# Altium footprint library Altium_Footprints.PcbLib: 38 footprints (part 2 of 3)
Each footprint in its own frame and in the unit in brackets; x right, y up, seen from the top. Pads: shape width x height; smd on the part's side, far side on the other; paste and mask are expansions set on the pad; w line width, h text height; cw(c..) or ccw(c..) is an arc to the next point about the centre after c.
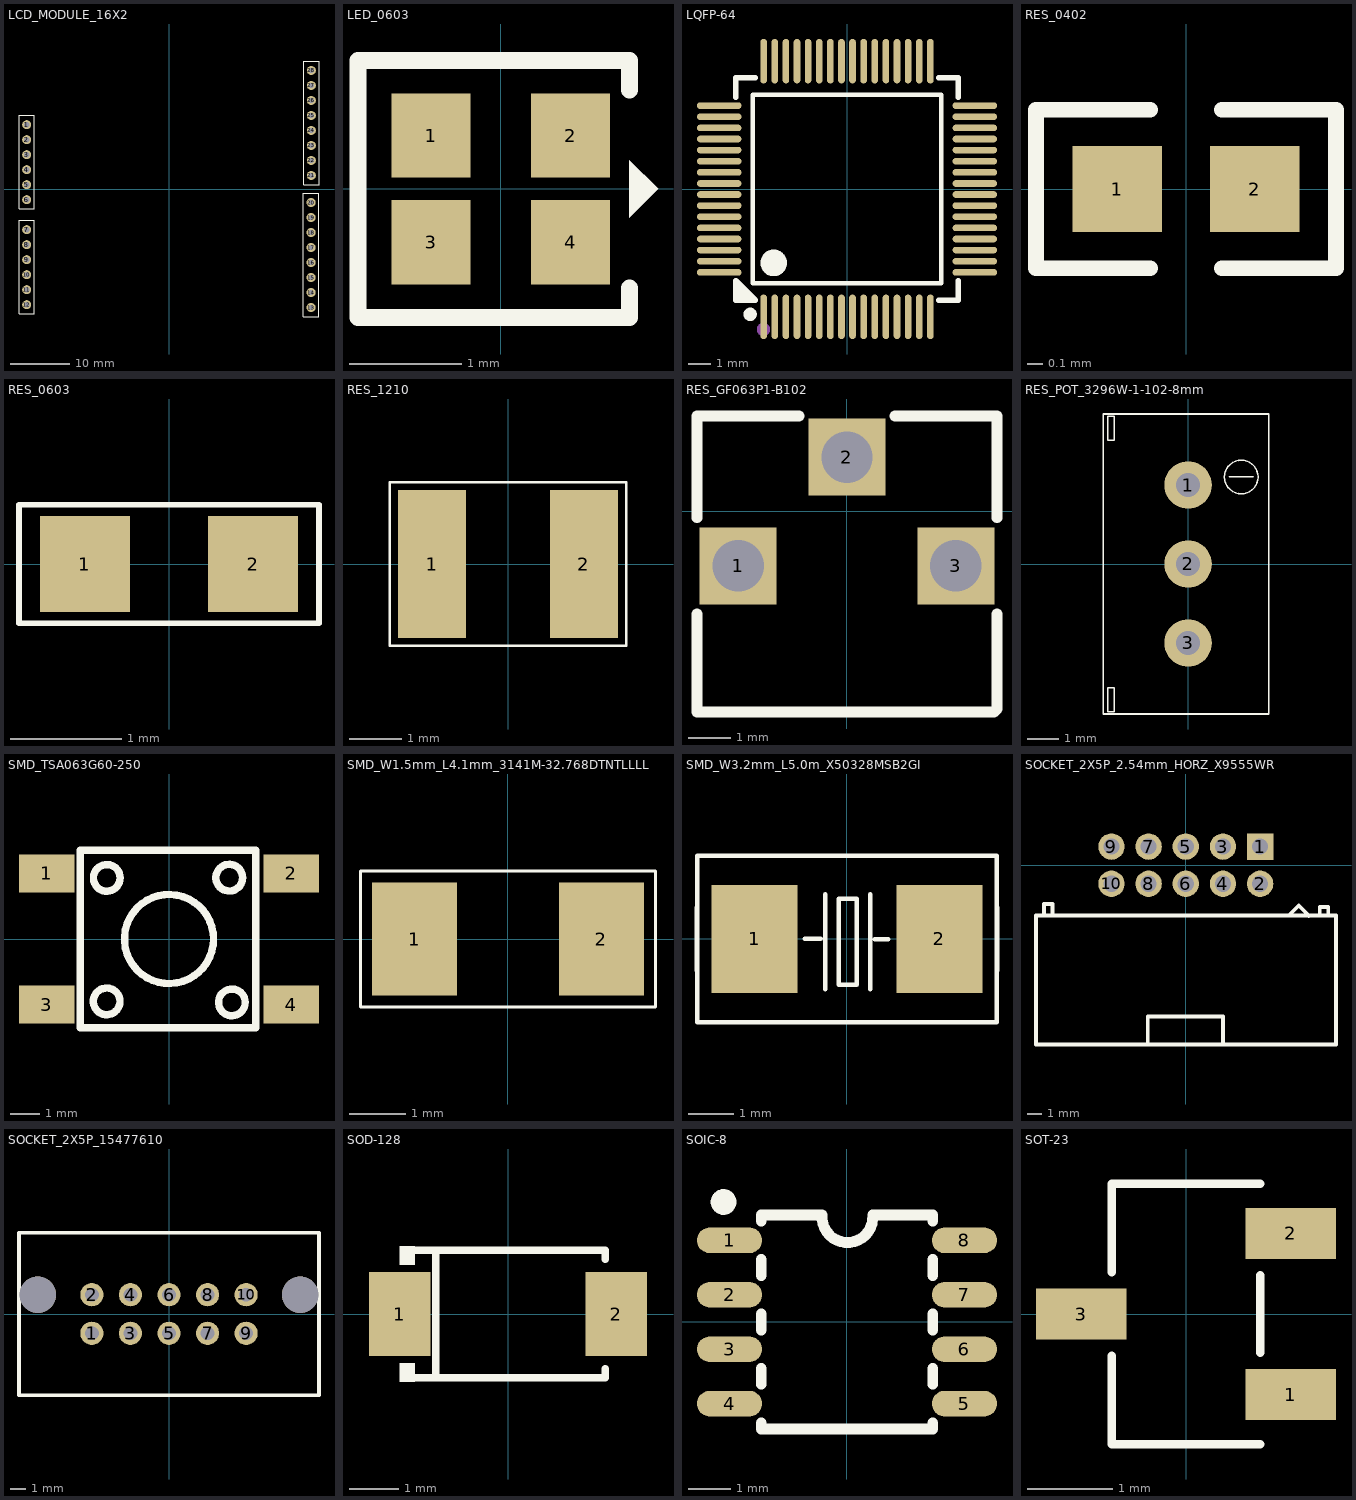
[diagram p1: the footprints below, top view; thin cyan lines are the x and y axes]

## LCD_MODULE_16X2 [mm]
pads (28):
  round 1.524 hole 0.9: 1(-24.1,10.888) 2(-24.1,8.348) 3(-24.1,5.808) 4(-24.1,3.268) 5(-24.1,0.728) 6(-24.1,-1.812) 7(-24.1,-6.892) 8(-24.1,-9.432) 9(-24.1,-11.972) 10(-24.1,-14.512) 11(-24.1,-17.052) 12(-24.1,-19.592) 13(24.06,-20.072) 14(24.06,-17.532) 15(24.06,-14.992) 16(24.06,-12.452) 17(24.06,-9.912) 18(24.06,-7.372) 19(24.06,-4.832) 20(24.06,-2.292) 21(24.1,2.292) 22(24.1,4.832) 23(24.1,7.372) 24(24.1,9.912) 25(24.1,12.452) 26(24.1,14.992) 27(24.1,17.532) 28(24.1,20.072)
Top Overlay:
  lines w0.05: -25.4,-21.162 -22.8,-21.162 -22.8,-16.902 -22.8,-9.582 -22.8,-5.322 -25.4,-5.322 -25.4,-21.162 ; -25.4,-3.382 -22.8,-3.382 -22.8,0.878 -22.8,8.198 -22.8,12.458 -25.4,12.458 -25.4,-3.382 ; 22.76,-21.642 22.76,-0.722 25.36,-0.722 25.36,-21.642 22.76,-21.642 ; 22.8,0.722 22.8,21.642 25.4,21.642 25.4,0.722 22.8,0.722
3D body "8-Pin Header - Female - 2.54mm.step": height 5, standoff -3, extent 22.85,0.772 25.35,21.592
3D body "LCDKeypadShield (2).stp": height 21.01, standoff -0.53, extent -29.014,-26 28.9,55
3D body "8-Pin Header - Female - 2.54mm.step": height 5, standoff -3, extent 22.81,-21.592 25.31,-0.772
3D body "6-Pin Header - Female - 2.54mm.step": height 5, standoff -3, extent -25.35,-3.332 -22.85,12.408
3D body "6-Pin Header - Female - 2.54mm.step": height 5, standoff -3, extent -25.35,-21.112 -22.85,-5.372

## LED_0603 [mm]
pads (4):
  rect 0.7x0.75 smd paste+0 mask+0.051: 1(-0.62,0.475) 2(0.62,0.475) 3(-0.62,-0.475) 4(0.62,-0.475)
Top Overlay:
  region: 1.143,0.254 1.143,-0.254 1.397,0
  lines w0.152: 1.143,0.88 1.143,0.889 ; 1.144,-0.879 1.144,-1.143 -1.269,-1.143 -1.269,1.143 1.144,1.143 1.144,0.881
3D body: height 0.6, standoff 0, extent -0.8,-0.8 0.8,0.8

## LQFP-64 [mm]
pads (64):
  oval 0.3x2 smd paste+0 mask+0.051: 1(-3.75,-5.75) 2(-3.25,-5.75) 3(-2.75,-5.75) 4(-2.25,-5.75) 5(-1.75,-5.75) 6(-1.25,-5.75) 7(-0.75,-5.75) 8(-0.25,-5.75) 9(0.25,-5.75) 10(0.75,-5.75) 11(1.25,-5.75) 12(1.75,-5.75) 13(2.25,-5.75) 14(2.75,-5.75) 15(3.25,-5.75) 16(3.75,-5.75) 33(3.75,5.75) 34(3.25,5.75) 35(2.75,5.75) 36(2.25,5.75) 37(1.75,5.75) 38(1.25,5.75) 39(0.75,5.75) 40(0.25,5.75) 41(-0.25,5.75) 42(-0.75,5.75) 43(-1.25,5.75) 44(-1.75,5.75) 45(-2.25,5.75) 46(-2.75,5.75) 47(-3.25,5.75) 48(-3.75,5.75)
  oval 2x0.3 smd paste+0 mask+0.051: 17(5.75,-3.75) 18(5.75,-3.25) 19(5.75,-2.75) 20(5.75,-2.25) 21(5.75,-1.75) 22(5.75,-1.25) 23(5.75,-0.75) 24(5.75,-0.25) 25(5.75,0.25) 26(5.75,0.75) 27(5.75,1.25) 28(5.75,1.75) 29(5.75,2.25) 30(5.75,2.75) 31(5.75,3.25) 32(5.75,3.75) 49(-5.75,3.75) 50(-5.75,3.25) 51(-5.75,2.75) 52(-5.75,2.25) 53(-5.75,1.75) 54(-5.75,1.25) 55(-5.75,0.75) 56(-5.75,0.25) 57(-5.75,-0.25) 58(-5.75,-0.75) 59(-5.75,-1.25) 60(-5.75,-1.75) 61(-5.75,-2.25) 62(-5.75,-2.75) 63(-5.75,-3.25) 64(-5.75,-3.75)
Top Overlay:
  region: -4.131,-5 -5,-4.131 -5,-5
  lines w0.2: -4.25,-4.25 4.25,-4.25 4.25,4.25 -4.25,4.25 -4.25,-4.25
  lines w0.254: -5,4.131 -5,5 -4.131,5 ; 4.131,-5 5,-5 5,-4.131 ; 4.131,5 5,5 5,4.131 ; -5,-4.131 -5,-5 -4.131,-5 -5,-4.131 ; -5,-4.131 -5,-4.131
  lines w0.3: -4.361,-5.49 ccw(c-4.36,-5.64) -4.359,-5.49
  lines w0.6: -3.299,-3.025 ccw(c-3.297,-3.325) -3.294,-3.025
Mechanical 15:
  circle w0.3: c-3.76,-6.32 r0.15
3D body "User Library-LQFP64-1.step": height 1.56, standoff 0, extent -6,-6 6,6

## RES_0402 [mm]
pads (2):
  rect 0.566x0.54 smd paste-100 mask+0.051: 1(-0.433,0) 2(0.433,0)
Top Overlay:
  lines w0.1: -0.226,-0.499 -0.944,-0.499 -0.944,0.499 -0.226,0.499 ; 0.226,-0.499 0.944,-0.499 0.944,0.499 0.226,0.499
Top Paste:
  region: 0.135,-0.23 0.135,0.23 0.175,0.27 0.676,0.27 0.716,0.23 0.716,-0.23 0.676,-0.27 0.175,-0.27
  region: -0.135,-0.23 -0.135,0.23 -0.175,0.27 -0.676,0.27 -0.716,0.23 -0.716,-0.23 -0.676,-0.27 -0.175,-0.27
3D body "User Library-CR1005-0402.step": height 0.35, standoff 0, extent -0.5,-0.25 0.5,0.25

## RES_0603 [mm] "RES 0603 SMD"
height 0.46
pads (2):
  rect 0.806x0.864 smd paste-100 mask+0.051: 1(-0.753,0) 2(0.753,0)
Top Overlay:
  lines w0.05: -1.345,-0.531 -1.345,0.531 1.345,0.531 1.345,-0.531 -1.345,-0.531
Top Paste:
  region: -0.355,0.4 -0.355,0.172 -0.735,0.172 -0.735,-0.158 -0.355,-0.158 -0.355,-0.4 -0.405,-0.45 -1.195,-0.45 -1.245,-0.4 -1.245,0.4 -1.195,0.45 -0.405,0.45
  region: 1.195,0.45 0.395,0.45 0.345,0.4 0.345,0.172 0.715,0.172 0.715,-0.158 0.345,-0.158 0.345,-0.4 0.395,-0.45 1.195,-0.45 1.245,-0.4 1.245,0.4
3D body "CircuitWorks-RESISTOR 0603.step": height 0.48, standoff -0.03, extent -0.8,-0.43 0.8,0.43

## RES_1210 [mm]
pads (2):
  rect 1.283x2.808 smd paste-100 mask+0.051: 1(-1.441,0) 2(1.441,0)
Top Overlay:
  lines w0.05: -2.24,-1.55 2.24,-1.55 2.24,1.55 -2.24,1.55 -2.24,-1.55
Top Paste:
  region: 0.8,-1.304 0.8,-0.577 0.9,-0.477 1.136,-0.477 1.236,-0.377 1.236,0.377 1.136,0.477 0.9,0.477 0.8,0.577 0.8,1.304 0.9,1.404 1.983,1.404 2.083,1.304 2.083,-1.304 1.983,-1.404 0.9,-1.404
  region: -0.8,-1.304 -0.8,-0.577 -0.9,-0.477 -1.136,-0.477 -1.236,-0.377 -1.236,0.377 -1.136,0.477 -0.9,0.477 -0.8,0.577 -0.8,1.304 -0.9,1.404 -1.983,1.404 -2.083,1.304 -2.083,-1.304 -1.983,-1.404 -0.9,-1.404
3D body "User Library-smt_resistor_packages.step": height 0.61, standoff -0.01, extent -1.61,-1.26 1.61,1.26

## RES_GF063P1-B102 [mm]
pads (3):
  rect 1.8x1.8 hole 1.2 paste+0 mask+0.051: 1(-2.54,-1.27) 2(0,1.27) 3(2.54,-1.27)
Top Overlay:
  lines w0.254: -3.5,-2.393 -3.5,-4.68 3.43,-4.68 3.5,-4.61 3.5,-2.393 ; -3.5,-0.147 -3.5,2.23 -1.123,2.23 ; 1.123,2.23 3.5,2.23 3.5,-0.147
3D body: height 5.5, standoff 0, extent -3.556,-4.699 3.556,2.286

## RES_POT_3296W-1-102-8mm [mil]
height 708.66
pads (3):
  round 60 hole 30 paste+0 mask+2: 1(0,100) 2(0,0.01) 3(0,-100)
Top Overlay:
  lines w1.97: 52.36,110.4 67.36,110.4 ; 88.61,110 cw(c67.35,110.2) 88.61,110.4 ; 67.36,110.4 82.36,110.4 67.36,110.4 ; -107.64,-190 -107.64,190 102.36,190 102.36,-190 -107.64,-190 ; -101.58,-187 -101.58,-157 -93.71,-157 -93.71,-187 -101.58,-187 ; -101.58,157.01 -101.58,187.01 -93.71,187.01 -93.71,157.01 -101.58,157.01
3D body: height 393.7, standoff 0, extent -107.64,-190 102.36,190

## SMD_TSA063G60-250 [mm]
pads (4):
  rect 1.9x1.3 smd paste+0 mask+0.051: 1(-4.2,2.25) 2(4.2,2.25) 3(-4.2,-2.25) 4(4.2,-2.25)
Top Overlay:
  circle w0.254: c-2.136,2.098 r0.458
  circle w0.254: c-2.141,-2.141 r0.458
  circle w0.254: c2.159,-2.177 r0.458
  circle w0.254: c2.068,2.105 r0.458
  circle w0.254: c0,0 r1.529
  lines w0.254: -3.051,-3.051 -3.051,3.051 2.977,3.051 2.977,-3.051 -3.051,-3.051
3D body: height 5, standoff 0, extent -1.7,-1.7 1.7,1.7
3D body: height 0.25, standoff 0, extent -3.087,3.02 3.048,3.048
3D body: height 3.5, standoff 0, extent -3.062,-3.048 3.048,3.067

## SMD_W1.5mm_L4.1mm_3141M-32.768DTNTLLLL [mm]
pads (2):
  rect 1.5x2 smd: 1(-1.65,0) 2(1.65,0)
Top Overlay:
  lines w0.05: -2.603,-1.203 -2.603,1.203 2.603,1.203 2.603,-1.203 -2.603,-1.203
3D body: height 0.9, standoff 0, extent -2.05,-0.75 2.05,0.75

## SMD_W3.2mm_L5.0m_X50328MSB2GI [mm]
pads (2):
  rect 1.9x2.4 smd paste+0 mask+0.051: 1(-2.05,0) 2(2.05,0)
Top Overlay:
  lines w0.1: -0.94,0 -0.584,0 ; -0.483,-1.109 -0.483,0.991 ; 0.517,-1.109 0.517,0.991 ; 0.617,-0.009 0.917,-0.009 ; -3.325,-1.85 3.325,-1.85 3.325,-0.7 3.325,0.7 3.325,1.85 -3.325,1.85 -3.325,0.7 -3.325,-0.7 -3.325,-1.85 ; -0.183,-1.009 -0.183,0.89 0.217,0.89 0.217,-1.009 -0.183,-1.009
3D body: height 1.2, standoff 0, extent -2.5,-1.6 2.5,1.6

## SOCKET_2X5P_2.54mm_HORZ_X9555WR [mm]
pads (10):
  rect 1.8x1.8 hole 1.1 paste+0 mask+0.051: 1(5.08,1.27)
  round 1.8 hole 1.1 paste+0 mask+0.051: 2(5.08,-1.27) 3(2.54,1.27) 4(2.54,-1.27) 5(0,1.27) 6(0,-1.27) 7(-2.54,1.27) 8(-2.54,-1.27) 9(-5.08,1.27) 10(-5.08,-1.27)
Top Overlay:
  lines w0.254: -10.236,-12.255 10.264,-12.255 ; -10.236,-12.23 -10.236,-3.43 ; -10.236,-3.442 10.264,-3.442 ; -9.69,-3.315 -9.69,-2.654 -9.106,-2.654 -9.106,-3.315 ; -2.616,-12.167 -2.591,-12.141 -2.591,-10.338 ; -2.54,-10.338 2.54,-10.338 2.54,-12.167 2.565,-12.192 ; 7.087,-3.391 7.722,-2.756 8.407,-3.442 8.407,-3.467 ; 9.157,-3.289 9.157,-2.857 9.741,-2.857 9.741,-3.264 ; 10.262,-12.242 10.262,-3.442
3D body: height 5, standoff 0, extent -10.236,-12.255 10.264,-3.442

## SOCKET_2X5P_15477610 [mil]
pads (12):
  round 60 hole 36 paste+0 mask+2: 1(-200,-50) 2(-200,50) 3(-100,-50) 4(-100,50) 5(0,-50) 6(0,50) 7(100,-50) 8(100,50) 9(200,-50) 10(200,50)
  round 94.49 hole 94.49 unplated paste+0: ""(-340.16,50) ""(340.16,50)
Top Overlay:
  lines w10: -388.98,-210.63 388.97,-210.63 388.97,210.63 -388.98,210.63 -388.98,-210.63

## SOD-128 [mm]
pads (2):
  rect 1.25x1.7 smd paste+0 mask+0.051: 1(-2.2,0) 2(2.2,0)
Top Overlay:
  region: -1.9,-1.377 -1.9,-1 -2.205,-1 -2.205,-1.377
  region: -1.9,1.377 -1.9,1 -2.205,1 -2.205,1.377
  lines w0.152: -1.976,-1.301 1.976,-1.301 1.976,-1.108 ; -1.976,1.301 1.976,1.301 1.976,1.108 ; -1.467,-1.301 -1.467,1.301
3D body "User Library-SOD-128 ST214 model.step": height 1.11, standoff 0, extent -2.695,-1.303 2.505,1.397

## SOIC-8 [mm]
pads (8):
  oval 1.52x0.6 smd paste+0 mask+0.051: 1(-2.74,1.905) 2(-2.74,0.635) 3(-2.74,-0.635) 4(-2.74,-1.905) 5(2.74,-1.905) 6(2.74,-0.635) 7(2.74,0.635) 8(2.74,1.905)
Top Overlay:
  circle w0.3: c-2.88,2.8 r0.15
  lines w0.254: -2,-2.356 -2,-2.5 2,-2.5 2,-2.356 ; -2,-1.454 -2,-1.086 ; -2,-0.184 -2,0.184 ; -2,1.086 -2,1.454 ; -2,2.356 -2,2.5 -0.58,2.5 ; -0.58,2.49 ccw(c0.01,2.445) 0.6,2.49 ; 0.6,2.5 2,2.5 2,2.356 ; 2,-1.454 2,-1.086 ; 2,-0.184 2,0.184 ; 2,1.086 2,1.454
3D body "User Library-so8-3.step": height 1.7, standoff 0, extent -3,-2.45 3,2.45

## SOT-23 [mm]
pads (3):
  rect 1.07x0.6 smd paste+0 mask+0.051: 1(1.235,-0.95) 2(1.235,0.95) 3(-1.235,0)
Top Overlay:
  lines w0.1: -0.876,-0.495 -0.876,-1.536 0.876,-1.536 ; -0.876,0.495 -0.876,1.536 0.876,1.536 ; 0.876,-0.455 0.876,0.455
3D body "CircuitWorks-SOT-23.step": height 1.11, standoff 0.01, extent -1.25,-1.5 1.25,1.5